# Altium schematic symbol library CH32V003F4P6.SchLib: 1 symbol
Pins are listed as number, name and electrical type; pins without a type are passive.

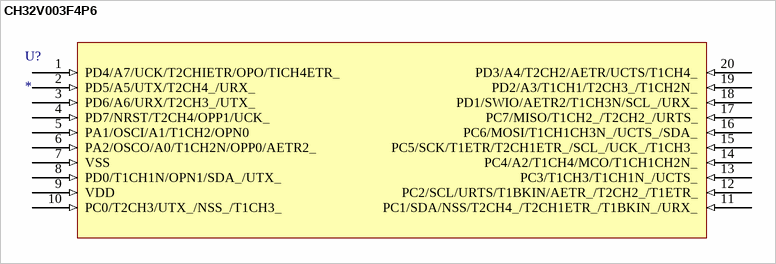
[diagram p0: symbol CH32V003F4P6]

## CH32V003F4P6
designator U?
Microcontroller designed based on QingKe RISC-V2A / core, which supports 48MHz system main frequency in the product function. The series features wide voltage, / single-wire serial debug interface, low-power consumption and ultra-small package. It provides commonly used / peripheral functions, built-in 1 group of DMA controller, 1 group of 10-bit analog-to-digital conversion ADC, 1 / group of op-amp comparator, multiple timers, standard communication interfaces such as USART, I2C, SPI, etc. / The rated operating voltage of the product is 3.3V or 5V, and the operating temperature range is -40℃～85℃ / industrial- grade.
footprint TSOP65P640X110-20N (TSOP, 20-Leads, Body 6.50x4.40mm, Pitch 0.65mm, IPC Medium Density)
pins: 1 PD4/A7/UCK/T2CHIETR/OPO/TICH4ETR_ (in), 2 PD5/A5/UTX/T2CH4_/URX_  (in), 3 PD6/A6/URX/T2CH3_/UTX_  (in), 4 PD7/NRST/T2CH4/OPP1/UCK_ (in), 5 PA1/OSCI/A1/T1CH2/OPN0 (in), 6 PA2/OSCO/A0/T1CH2N/OPP0/AETR2_ (in), 7 VSS (in), 8 PD0/T1CH1N/OPN1/SDA_/UTX_ (in), 9 VDD (in), 10 PC0/T2CH3/UTX_/NSS_/T1CH3_ (in), 11 PC1/SDA/NSS/T2CH4_/T2CH1ETR_/T1BKIN_/URX_ (in), 12 PC2/SCL/URTS/T1BKIN/AETR_/T2CH2_/T1ETR_ (in), 13 PC3/T1CH3/T1CH1N_/UCTS_ (in), 14 PC4/A2/T1CH4/MCO/T1CH1CH2N_ (in), 15 PC5/SCK/T1ETR/T2CH1ETR_/SCL_/UCK_/T1CH3_ (in), 16 PC6/MOSI/T1CH1CH3N_/UCTS_/SDA_ (in), 17 PC7/MISO/T1CH2_/T2CH2_/URTS_ (in), 18 PD1/SWIO/AETR2/T1CH3N/SCL_/URX_ (in), 19 PD2/A3/T1CH1/T2CH3_/T1CH2N_ (in), 20 PD3/A4/T2CH2/AETR/UCTS/T1CH4_ (in)